# Altium integrated library Linear Technology Power Management LED Driver ICs.IntLib: 490 symbols (part 10 of 48)
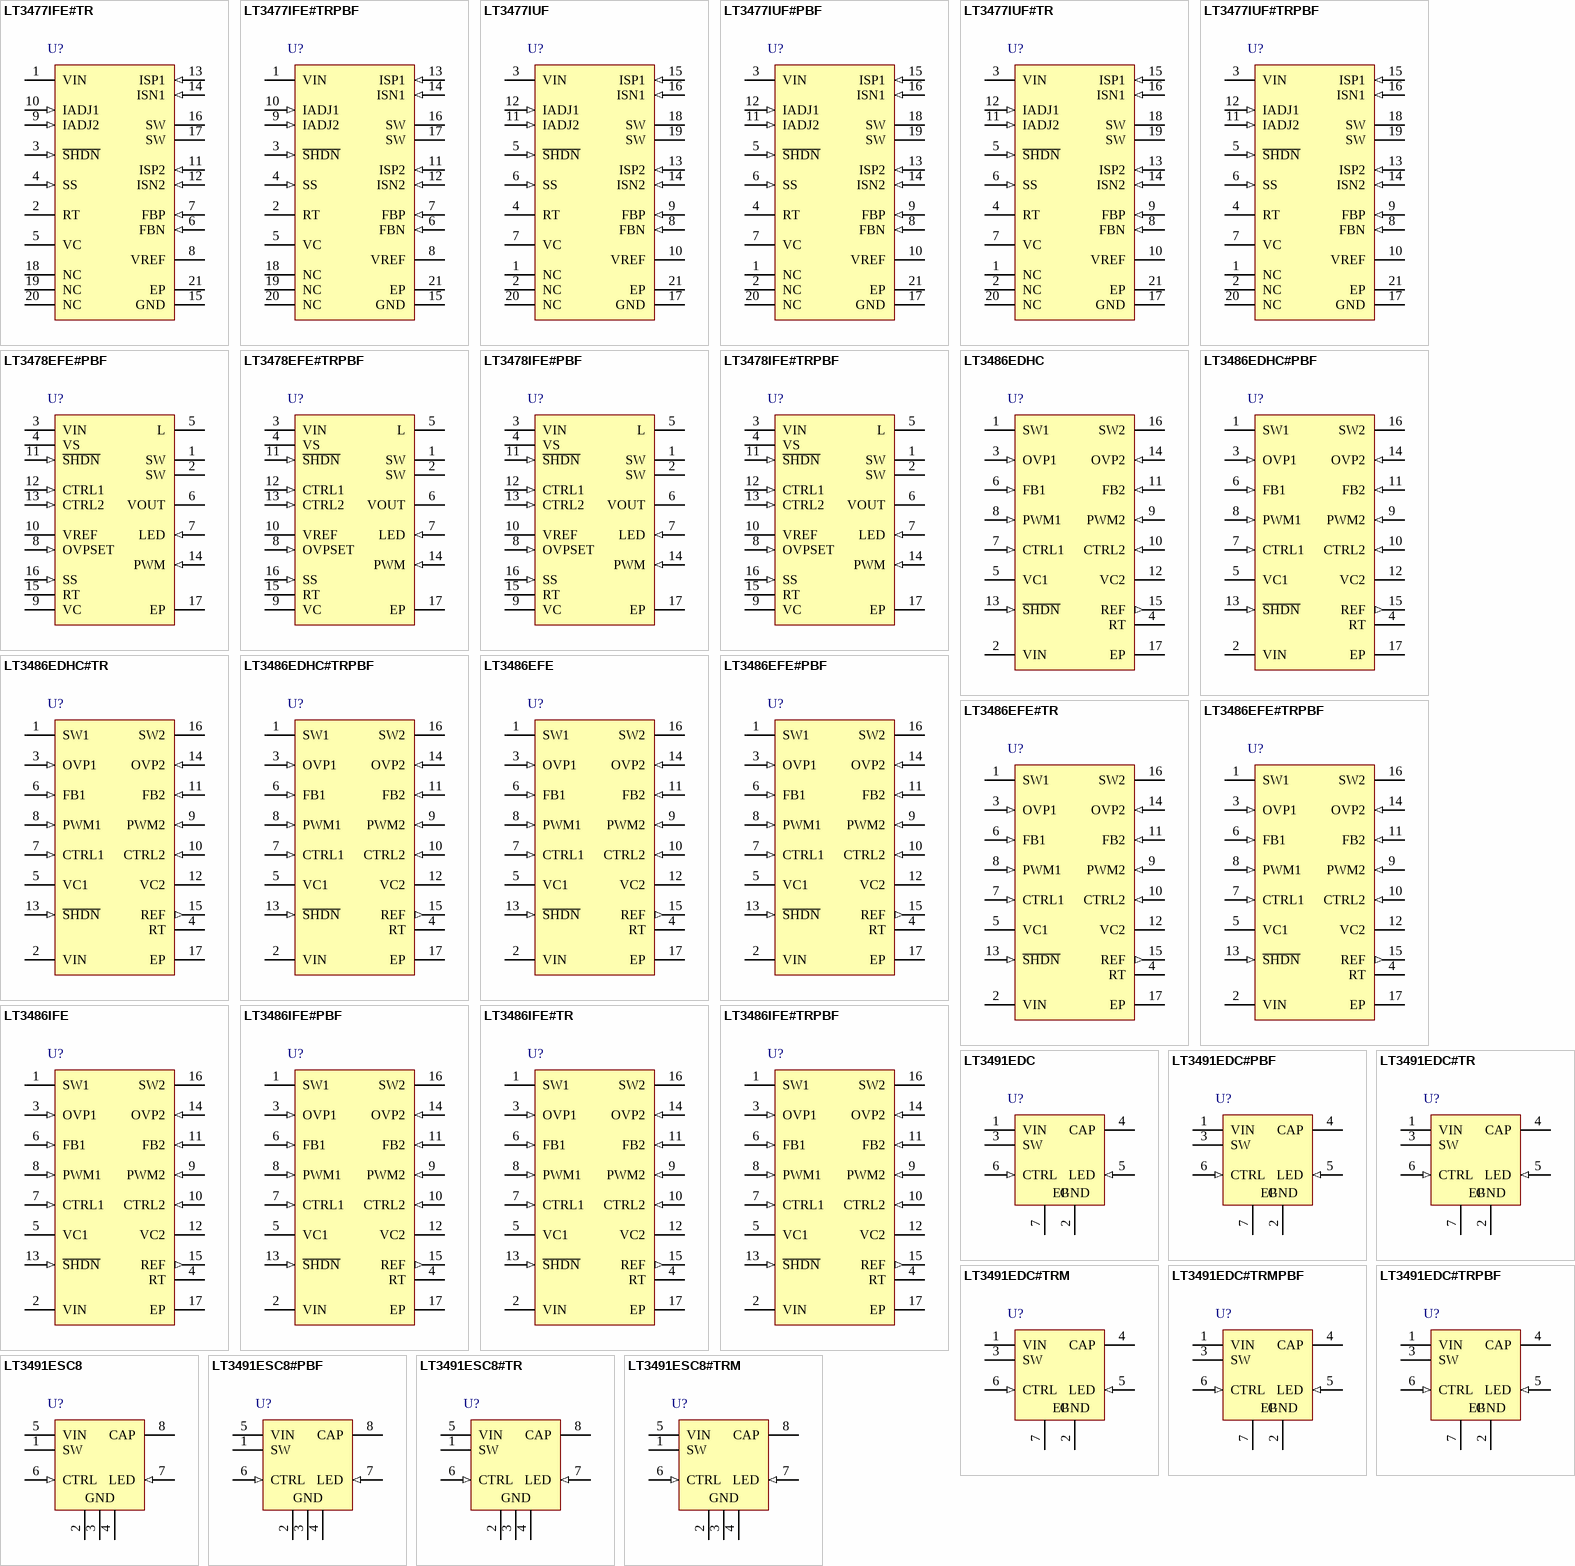
[diagram p29: symbols LT3477IFE#TR to LT3491ESC8#TRM]

## LT3491EDC#TRMPBF
designator U?
White LED Driver with Integrated Schottky, 2.5 to 12 V Vin, 24 V Vout MAX, 6-pin SON (DC6-6), -40 to 85 degC, Pb-Free, Mini Tape and Reel; Manufacturer: Linear Technology; PartNumber: LT3491EDC#TRMPBF; Topology: Boost, LED Driver; Vin Min(V): 2.5; PackageVersion: Rev. B, 06/2010; PackageReference: DC6-6; PackageDescription: 6-Pin Plastic DFN, Body 2 x 2 mm, Pitch 0.5 mm; Supplier 1: Digi-Key; Supplier Part Number 1: LT3491EDC#TRMPBFTR-ND; Supplier 2: Digi-Key; Supplier Part Number 2: LT3491EDC#TRMPBFCT-ND; Supplier 3: Digi-Key; Supplier Part Number 3: LT3491EDC#TRMPBFDKR-ND; Supplier 4: Farnell; Supplier Part Number 4: 1715220; Supplier 5: Farnell; Supplier Part Number 5: 1715220RL; Supplier 6: Newark; Supplier Part Number 6: 75M4733; Packing: Mini Tape and Reel; RoHS: TRUE; Mounting Technology: Surface Mount; Code_JEDEC: MO-229; ComponentLink1Description: Manufacturer URL; ComponentLink1URL: http://www.linear.com/; ComponentLink2Description: Datasheet; ComponentLink2URL: http://cds.linear.com/docs/en/datasheet/3491fa.pdf; ComponentLink3Description: Package Specification; ComponentLink3URL: http://cds.linear.com/docs/en/packaging/DFN_6_05-08-1703.pdf
footprint LT-DC6-6_V (SON, 6-Leads, Body 2x2mm, Pitch 0.5mm, Thermal Pad 1.42x0.61mm)
pins: 1 VIN (power) "Input Supply Pin. Must be locally bypassed.", 2 GND (power) "Ground Pins. All three pins should be tied directly to local ground plane.", 3 SW "Switch Pin. Minimize trace area at this pin to minimize EMI. Connect the inductor at this pin.", 4 CAP (power) "Output of the Driver. This pin is connected to the cathode of internal Schottky. Connect the output capacitor to this pin and the sense resistor from this pin to the LED pin.", 5 LED (in) "Connection Point for the Anode of the First LED and the Sense Resistor. The LED current can be programmed by: ILED=200mV/RSENSE.", 6 CTRL (in) "Dimming and Shutdown Pin. Connect this pin below 50mV to disable the driver. As the pin voltage is ramped from 0V to 1.5V, the LED current ramps from 0 to ILED ( = 200mV/RSENSE). The CTRL pin must not be left floating.", 7 EP (power) "The Exposed Pad should be soldered to the PCB ground to achieve the rated thermal performance."

## LT3491EDC#TRPBF
designator U?
White LED Driver with Integrated Schottky, 2.5 to 12 V Vin, 24 V Vout MAX, 6-pin SON (DC6-6), -40 to 85 degC, Pb-Free, Tape and Reel; Manufacturer: Linear Technology; PartNumber: LT3491EDC#TRPBF; Topology: Boost, LED Driver; Vin Min(V): 2.5; PackageVersion: Rev. B, 06/2010; PackageReference: DC6-6; PackageDescription: 6-Pin Plastic DFN, Body 2 x 2 mm, Pitch 0.5 mm; Supplier 1: Digi-Key; Supplier Part Number 1: LT3491EDC#TRPBF-ND; Packing: Tape and Reel; RoHS: TRUE; Mounting Technology: Surface Mount; Code_JEDEC: MO-229; ComponentLink1Description: Manufacturer URL; ComponentLink1URL: http://www.linear.com/; ComponentLink2Description: Datasheet; ComponentLink2URL: http://cds.linear.com/docs/en/datasheet/3491fa.pdf; ComponentLink3Description: Package Specification; ComponentLink3URL: http://cds.linear.com/docs/en/packaging/DFN_6_05-08-1703.pdf
footprint LT-DC6-6_V (SON, 6-Leads, Body 2x2mm, Pitch 0.5mm, Thermal Pad 1.42x0.61mm)
pins: 1 VIN (power) "Input Supply Pin. Must be locally bypassed.", 2 GND (power) "Ground Pins. All three pins should be tied directly to local ground plane.", 3 SW "Switch Pin. Minimize trace area at this pin to minimize EMI. Connect the inductor at this pin.", 4 CAP (power) "Output of the Driver. This pin is connected to the cathode of internal Schottky. Connect the output capacitor to this pin and the sense resistor from this pin to the LED pin.", 5 LED (in) "Connection Point for the Anode of the First LED and the Sense Resistor. The LED current can be programmed by: ILED=200mV/RSENSE.", 6 CTRL (in) "Dimming and Shutdown Pin. Connect this pin below 50mV to disable the driver. As the pin voltage is ramped from 0V to 1.5V, the LED current ramps from 0 to ILED ( = 200mV/RSENSE). The CTRL pin must not be left floating.", 7 EP (power) "The Exposed Pad should be soldered to the PCB ground to achieve the rated thermal performance."

## LT3491ESC8
designator U?
White LED Driver with Integrated Schottky, 2.5 to 12 V Vin, 24 V Vout MAX, 8-pin SOT23 (SC8-8), -40 to 85 degC; Manufacturer: Linear Technology; PartNumber: LT3491ESC8; Topology: Boost, LED Driver; Vin Min(V): 2.5; PackageVersion: Rev. Ø, 06/2012; PackageReference: SC8-8; PackageDescription: 8-Pin Plastic SC70, Body 2 x 1.25 mm, Pitch 0.5 mm; RoHS: FALSE; Mounting Technology: Surface Mount; Code_JEDEC: MO-203; ComponentLink1Description: Manufacturer URL; ComponentLink1URL: http://www.linear.com/; ComponentLink2Description: Datasheet; ComponentLink2URL: http://cds.linear.com/docs/en/datasheet/3491fa.pdf; ComponentLink3Description: Package Specification; ComponentLink3URL: http://cds.linear.com/docs/en/packaging/SOT_8_05-08-1639.pdf
footprint LT-SC8-8-SC70_N (SOT23, 8-Leads, Body 2.2x1.35mm, Pitch 0.5mm, IPC Medium Density)
footprint LT-SC8-8-SC70_L (SOT23, 8-Leads, Body 2.2x1.35mm, Pitch 0.5mm, IPC High Density)
footprint LT-SC8-8-SC70_M (SOT23, 8-Leads, Body 2.2x1.35mm, Pitch 0.5mm, IPC Low Density)
pins: 1 SW "Switch Pin. Minimize trace area at this pin to minimize EMI. Connect the inductor at this pin.", 2 GND (power) "Ground Pins. All three pins should be tied directly to local ground plane.", 3 GND (power) "Ground Pins. All three pins should be tied directly to local ground plane.", 4 GND (power) "Ground Pins. All three pins should be tied directly to local ground plane.", 5 VIN (power) "Input Supply Pin. Must be locally bypassed.", 6 CTRL (in) "Dimming and Shutdown Pin. Connect this pin below 50mV to disable the driver. As the pin voltage is ramped from 0V to 1.5V, the LED current ramps from 0 to ILED ( = 200mV/RSENSE). The CTRL pin must not be left floating.", 7 LED (in) "Connection Point for the Anode of the First LED and the Sense Resistor.", 8 CAP (power) "Output of the Driver. This pin is connected to the cathode of internal Schottky. Connect the output capacitor to this pin and the sense resistor from this pin to the LED pin."

## LT3491ESC8#PBF
designator U?
White LED Driver with Integrated Schottky, 2.5 to 12 V Vin, 24 V Vout MAX, 8-pin SOT23 (SC8-8), -40 to 85 degC, Pb-Free; Manufacturer: Linear Technology; PartNumber: LT3491ESC8#PBF; Topology: Boost, LED Driver; Vin Min(V): 2.5; PackageVersion: Rev. Ø, 06/2012; PackageReference: SC8-8; PackageDescription: 8-Pin Plastic SC70, Body 2 x 1.25 mm, Pitch 0.5 mm; Supplier 1: Farnell; Supplier Part Number 1: 2294846; Supplier 2: Newark; Supplier Part Number 2: 78T4015; RoHS: TRUE; Mounting Technology: Surface Mount; Code_JEDEC: MO-203; ComponentLink1Description: Manufacturer URL; ComponentLink1URL: http://www.linear.com/; ComponentLink2Description: Datasheet; ComponentLink2URL: http://cds.linear.com/docs/en/datasheet/3491fa.pdf; ComponentLink3Description: Package Specification; ComponentLink3URL: http://cds.linear.com/docs/en/packaging/SOT_8_05-08-1639.pdf
footprint LT-SC8-8-SC70_N (SOT23, 8-Leads, Body 2.2x1.35mm, Pitch 0.5mm, IPC Medium Density)
footprint LT-SC8-8-SC70_L (SOT23, 8-Leads, Body 2.2x1.35mm, Pitch 0.5mm, IPC High Density)
footprint LT-SC8-8-SC70_M (SOT23, 8-Leads, Body 2.2x1.35mm, Pitch 0.5mm, IPC Low Density)
pins: 1 SW "Switch Pin. Minimize trace area at this pin to minimize EMI. Connect the inductor at this pin.", 2 GND (power) "Ground Pins. All three pins should be tied directly to local ground plane.", 3 GND (power) "Ground Pins. All three pins should be tied directly to local ground plane.", 4 GND (power) "Ground Pins. All three pins should be tied directly to local ground plane.", 5 VIN (power) "Input Supply Pin. Must be locally bypassed.", 6 CTRL (in) "Dimming and Shutdown Pin. Connect this pin below 50mV to disable the driver. As the pin voltage is ramped from 0V to 1.5V, the LED current ramps from 0 to ILED ( = 200mV/RSENSE). The CTRL pin must not be left floating.", 7 LED (in) "Connection Point for the Anode of the First LED and the Sense Resistor.", 8 CAP (power) "Output of the Driver. This pin is connected to the cathode of internal Schottky. Connect the output capacitor to this pin and the sense resistor from this pin to the LED pin."

## LT3491ESC8#TR
designator U?
White LED Driver with Integrated Schottky, 2.5 to 12 V Vin, 24 V Vout MAX, 8-pin SOT23 (SC8-8), -40 to 85 degC, Tape and Reel; Manufacturer: Linear Technology; PartNumber: LT3491ESC8#TR; Topology: Boost, LED Driver; Vin Min(V): 2.5; PackageVersion: Rev. Ø, 06/2012; PackageReference: SC8-8; PackageDescription: 8-Pin Plastic SC70, Body 2 x 1.25 mm, Pitch 0.5 mm; Supplier 1: Newark; Supplier Part Number 1: 57M8424; Packing: Tape and Reel; RoHS: FALSE; Mounting Technology: Surface Mount; Code_JEDEC: MO-203; ComponentLink1Description: Manufacturer URL; ComponentLink1URL: http://www.linear.com/; ComponentLink2Description: Datasheet; ComponentLink2URL: http://cds.linear.com/docs/en/datasheet/3491fa.pdf; ComponentLink3Description: Package Specification; ComponentLink3URL: http://cds.linear.com/docs/en/packaging/SOT_8_05-08-1639.pdf
footprint LT-SC8-8-SC70_N (SOT23, 8-Leads, Body 2.2x1.35mm, Pitch 0.5mm, IPC Medium Density)
footprint LT-SC8-8-SC70_L (SOT23, 8-Leads, Body 2.2x1.35mm, Pitch 0.5mm, IPC High Density)
footprint LT-SC8-8-SC70_M (SOT23, 8-Leads, Body 2.2x1.35mm, Pitch 0.5mm, IPC Low Density)
pins: 1 SW "Switch Pin. Minimize trace area at this pin to minimize EMI. Connect the inductor at this pin.", 2 GND (power) "Ground Pins. All three pins should be tied directly to local ground plane.", 3 GND (power) "Ground Pins. All three pins should be tied directly to local ground plane.", 4 GND (power) "Ground Pins. All three pins should be tied directly to local ground plane.", 5 VIN (power) "Input Supply Pin. Must be locally bypassed.", 6 CTRL (in) "Dimming and Shutdown Pin. Connect this pin below 50mV to disable the driver. As the pin voltage is ramped from 0V to 1.5V, the LED current ramps from 0 to ILED ( = 200mV/RSENSE). The CTRL pin must not be left floating.", 7 LED (in) "Connection Point for the Anode of the First LED and the Sense Resistor.", 8 CAP (power) "Output of the Driver. This pin is connected to the cathode of internal Schottky. Connect the output capacitor to this pin and the sense resistor from this pin to the LED pin."

## LT3491ESC8#TRM
designator U?
White LED Driver with Integrated Schottky, 2.5 to 12 V Vin, 24 V Vout MAX, 8-pin SOT23 (SC8-8), -40 to 85 degC, Mini Tape and Reel; Manufacturer: Linear Technology; PartNumber: LT3491ESC8#TRM; Topology: Boost, LED Driver; Vin Min(V): 2.5; PackageVersion: Rev. Ø, 06/2012; PackageReference: SC8-8; PackageDescription: 8-Pin Plastic SC70, Body 2 x 1.25 mm, Pitch 0.5 mm; Packing: Mini Tape and Reel; RoHS: FALSE; Mounting Technology: Surface Mount; Code_JEDEC: MO-203; ComponentLink1Description: Manufacturer URL; ComponentLink1URL: http://www.linear.com/; ComponentLink2Description: Datasheet; ComponentLink2URL: http://cds.linear.com/docs/en/datasheet/3491fa.pdf; ComponentLink3Description: Package Specification; ComponentLink3URL: http://cds.linear.com/docs/en/packaging/SOT_8_05-08-1639.pdf
footprint LT-SC8-8-SC70_N (SOT23, 8-Leads, Body 2.2x1.35mm, Pitch 0.5mm, IPC Medium Density)
footprint LT-SC8-8-SC70_L (SOT23, 8-Leads, Body 2.2x1.35mm, Pitch 0.5mm, IPC High Density)
footprint LT-SC8-8-SC70_M (SOT23, 8-Leads, Body 2.2x1.35mm, Pitch 0.5mm, IPC Low Density)
pins: 1 SW "Switch Pin. Minimize trace area at this pin to minimize EMI. Connect the inductor at this pin.", 2 GND (power) "Ground Pins. All three pins should be tied directly to local ground plane.", 3 GND (power) "Ground Pins. All three pins should be tied directly to local ground plane.", 4 GND (power) "Ground Pins. All three pins should be tied directly to local ground plane.", 5 VIN (power) "Input Supply Pin. Must be locally bypassed.", 6 CTRL (in) "Dimming and Shutdown Pin. Connect this pin below 50mV to disable the driver. As the pin voltage is ramped from 0V to 1.5V, the LED current ramps from 0 to ILED ( = 200mV/RSENSE). The CTRL pin must not be left floating.", 7 LED (in) "Connection Point for the Anode of the First LED and the Sense Resistor.", 8 CAP (power) "Output of the Driver. This pin is connected to the cathode of internal Schottky. Connect the output capacitor to this pin and the sense resistor from this pin to the LED pin."

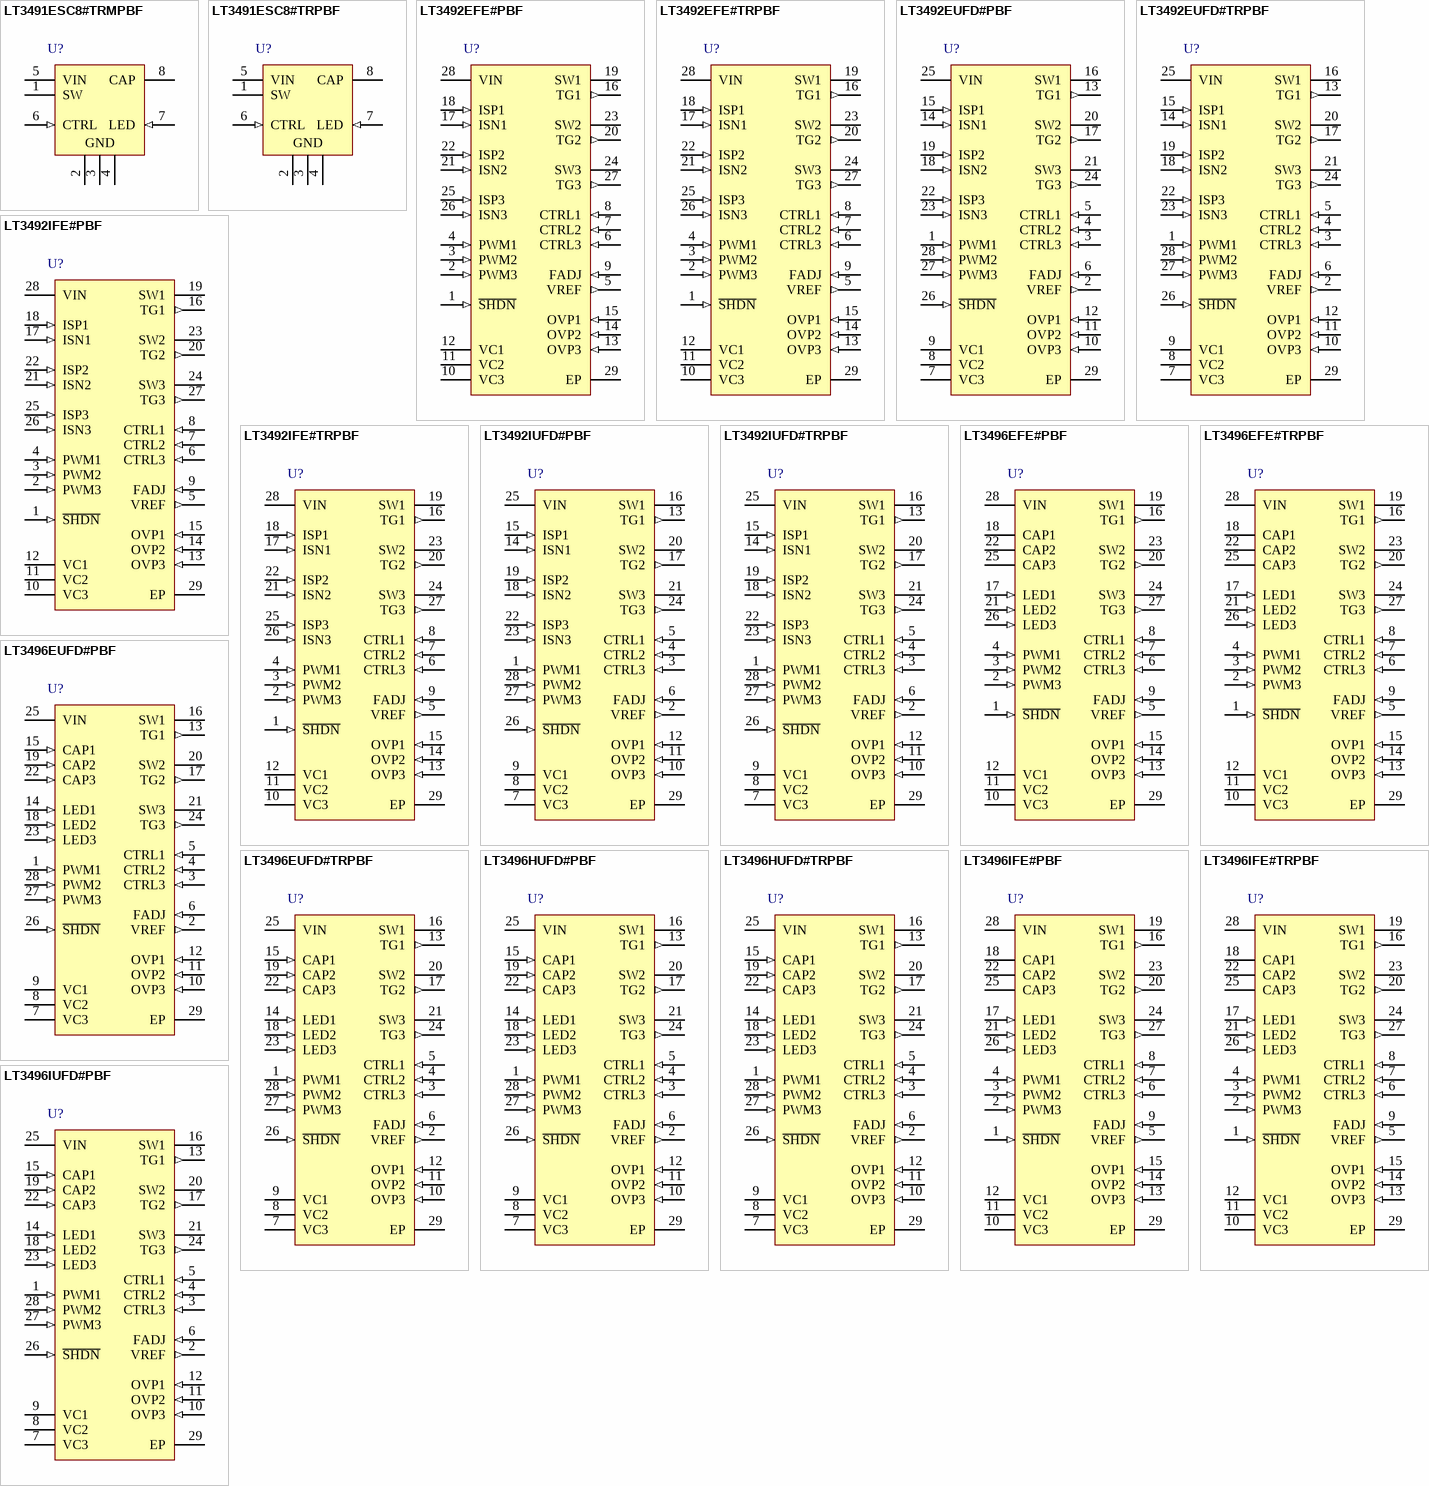
[diagram p4: symbols LT3491ESC8#TRMPBF to LT3496IUFD#PBF]

## LT3491ESC8#TRMPBF
designator U?
White LED Driver with Integrated Schottky, 2.5 to 12 V Vin, 24 V Vout MAX, 8-pin SOT23 (SC8-8), -40 to 85 degC, Pb-Free, Mini Tape and Reel; Manufacturer: Linear Technology; PartNumber: LT3491ESC8#TRMPBF; Topology: Boost, LED Driver; Vin Min(V): 2.5; PackageVersion: Rev. Ø, 06/2012; PackageReference: SC8-8; PackageDescription: 8-Pin Plastic SC70, Body 2 x 1.25 mm, Pitch 0.5 mm; Supplier 1: Digi-Key; Supplier Part Number 1: LT3491ESC8#TRMPBFTR-ND; Supplier 2: Digi-Key; Supplier Part Number 2: LT3491ESC8#TRMPBFCT-ND; Supplier 3: Digi-Key; Supplier Part Number 3: LT3491ESC8#TRMPBFDKR-ND; Supplier 4: Newark; Supplier Part Number 4: 57M8426; Packing: Mini Tape and Reel; RoHS: TRUE; Mounting Technology: Surface Mount; Code_JEDEC: MO-203; ComponentLink1Description: Manufacturer URL; ComponentLink1URL: http://www.linear.com/; ComponentLink2Description: Datasheet; ComponentLink2URL: http://cds.linear.com/docs/en/datasheet/3491fa.pdf; ComponentLink3Description: Package Specification; ComponentLink3URL: http://cds.linear.com/docs/en/packaging/SOT_8_05-08-1639.pdf
footprint LT-SC8-8-SC70_N (SOT23, 8-Leads, Body 2.2x1.35mm, Pitch 0.5mm, IPC Medium Density)
footprint LT-SC8-8-SC70_L (SOT23, 8-Leads, Body 2.2x1.35mm, Pitch 0.5mm, IPC High Density)
footprint LT-SC8-8-SC70_M (SOT23, 8-Leads, Body 2.2x1.35mm, Pitch 0.5mm, IPC Low Density)
pins: 1 SW "Switch Pin. Minimize trace area at this pin to minimize EMI. Connect the inductor at this pin.", 2 GND (power) "Ground Pins. All three pins should be tied directly to local ground plane.", 3 GND (power) "Ground Pins. All three pins should be tied directly to local ground plane.", 4 GND (power) "Ground Pins. All three pins should be tied directly to local ground plane.", 5 VIN (power) "Input Supply Pin. Must be locally bypassed.", 6 CTRL (in) "Dimming and Shutdown Pin. Connect this pin below 50mV to disable the driver. As the pin voltage is ramped from 0V to 1.5V, the LED current ramps from 0 to ILED ( = 200mV/RSENSE). The CTRL pin must not be left floating.", 7 LED (in) "Connection Point for the Anode of the First LED and the Sense Resistor.", 8 CAP (power) "Output of the Driver. This pin is connected to the cathode of internal Schottky. Connect the output capacitor to this pin and the sense resistor from this pin to the LED pin."

## LT3491ESC8#TRPBF
designator U?
White LED Driver with Integrated Schottky, 2.5 to 12 V Vin, 24 V Vout MAX, 8-pin SOT23 (SC8-8), -40 to 85 degC, Pb-Free, Tape and Reel; Manufacturer: Linear Technology; PartNumber: LT3491ESC8#TRPBF; Topology: Boost, LED Driver; Vin Min(V): 2.5; PackageVersion: Rev. Ø, 06/2012; PackageReference: SC8-8; PackageDescription: 8-Pin Plastic SC70, Body 2 x 1.25 mm, Pitch 0.5 mm; Supplier 1: Digi-Key; Supplier Part Number 1: LT3491ESC8#TRPBF-ND; Supplier 2: Newark; Supplier Part Number 2: 57M8427; Packing: Tape and Reel; RoHS: TRUE; Mounting Technology: Surface Mount; Code_JEDEC: MO-203; ComponentLink1Description: Manufacturer URL; ComponentLink1URL: http://www.linear.com/; ComponentLink2Description: Datasheet; ComponentLink2URL: http://cds.linear.com/docs/en/datasheet/3491fa.pdf; ComponentLink3Description: Package Specification; ComponentLink3URL: http://cds.linear.com/docs/en/packaging/SOT_8_05-08-1639.pdf
footprint LT-SC8-8-SC70_N (SOT23, 8-Leads, Body 2.2x1.35mm, Pitch 0.5mm, IPC Medium Density)
footprint LT-SC8-8-SC70_L (SOT23, 8-Leads, Body 2.2x1.35mm, Pitch 0.5mm, IPC High Density)
footprint LT-SC8-8-SC70_M (SOT23, 8-Leads, Body 2.2x1.35mm, Pitch 0.5mm, IPC Low Density)
pins: 1 SW "Switch Pin. Minimize trace area at this pin to minimize EMI. Connect the inductor at this pin.", 2 GND (power) "Ground Pins. All three pins should be tied directly to local ground plane.", 3 GND (power) "Ground Pins. All three pins should be tied directly to local ground plane.", 4 GND (power) "Ground Pins. All three pins should be tied directly to local ground plane.", 5 VIN (power) "Input Supply Pin. Must be locally bypassed.", 6 CTRL (in) "Dimming and Shutdown Pin. Connect this pin below 50mV to disable the driver. As the pin voltage is ramped from 0V to 1.5V, the LED current ramps from 0 to ILED ( = 200mV/RSENSE). The CTRL pin must not be left floating.", 7 LED (in) "Connection Point for the Anode of the First LED and the Sense Resistor.", 8 CAP (power) "Output of the Driver. This pin is connected to the cathode of internal Schottky. Connect the output capacitor to this pin and the sense resistor from this pin to the LED pin."

## LT3492EFE#PBF
designator U?
Triple Output LED Driver Triple Output LED Driver with 3000:1 PWM Dimming, 3 to 30 V Vin, 60 V Vout MAX, 28-pin SOP (FE-28-EPV-EB), -40 to 125 degC, Pb-Free; Manufacturer: Linear Technology; PartNumber: LT3492EFE#PBF; Topology: Buck, Boost, Buck-Boost, LED Driver; Vin Min(V): 3; DatasheetVersion: Rev. A; PackageVersion: Rev. J, 11/2012; PackageReference: FE-28; PackageDescription: 28-Pin Plastic TSSOP, Body 9.7 x 4.4 mm, Pitch 0.65 mm; Supplier 1: Digi-Key; Supplier Part Number 1: LT3492EFE#PBF-ND; Supplier 2: Newark; Supplier Part Number 2: 63R6849; RoHS: TRUE; Mounting Technology: Surface Mount; ComponentLink1Description: Manufacturer URL; ComponentLink1URL: http://www.linear.com/; ComponentLink2Description: Datasheet; ComponentLink2URL: http://cds.linear.com/docs/en/datasheet/3492fa.pdf; ComponentLink3Description: Package Specification; ComponentLink3URL: http://cds.linear.com/docs/en/packaging/05081663__J_FE28(EB).pdf
footprint LT-FE-28-EPV-EB_N (SOP, 28-Leads, Body 9.8x4.5mm, Pitch 0.65mm, Thermal Pad 4.75x2.74mm, IPC Medium Density)
footprint LT-FE-28-EPV-EB_L (SOP, 28-Leads, Body 9.8x4.5mm, Pitch 0.65mm, Thermal Pad 4.75x2.74mm, IPC High Density)
footprint LT-FE-28-EPV-EB_M (SOP, 28-Leads, Body 9.8x4.5mm, Pitch 0.65mm, Thermal Pad 4.75x2.74mm, IPC Low Density)
pins: 1 ~{SHDN} (in) "Shutdown Pin. Used to shut down the switching regulator and the internal bias circuits for all three converters. Tie to 1.5V or greater to enable the device. Tie below 0.4V to turn off the device.", 2 PWM3 (in) "Pulse Width Modulated Input. Signal low turns off the respective converter, reduces quiescent supply current and causes the VC pin for that converter to become high impedance. PWM pin must not be left fl oating; tie to VREF (See Datasheet)", 3 PWM2 (in) "Pulse Width Modulated Input. Signal low turns off the respective converter, reduces quiescent supply current and causes the VC pin for that converter to become high impedance. PWM pin must not be left fl oating; tie to VREF (See Datasheet)", 4 PWM1 (in) "Pulse Width Modulated Input. Signal low turns off the respective converter, reduces quiescent supply current and causes the VC pin for that converter to become high impedance. PWM pin must not be left fl oating; tie to VREF (See Datasheet)", 5 VREF (out) "Reference Output Pin. Can supply up to 200uA. The nominal Output Voltage is 2V.", 6 CTRL3 (in) "LED Current Adjustment Pin. Sets voltage across external sense resistor between ISP and ISN pins of the respective converter. Setting CTRL voltage to be less than 1V will control the current sense voltage to be one-tenth of (See Datasheet)", 7 CTRL2 (in) "LED Current Adjustment Pin. Sets voltage across external sense resistor between ISP and ISN pins of the respective converter. Setting CTRL voltage to be less than 1V will control the current sense voltage to be one-tenth of (See Datasheet)", 8 CTRL1 (in) "LED Current Adjustment Pin. Sets voltage across external sense resistor between ISP and ISN pins of the respective converter. Setting CTRL voltage to be less than 1V will control the current sense voltage to be one-tenth of (See Datasheet)", 9 FADJ (in) "Switching Frequency Adjustment Pin. Setting FADJ voltage to be less than 1V will adjust switching frequency up to 2.1MHz. If FADJ voltage is higher than 1V, the default switching frequency is 2.1MHz. The FADJ pin must not be (See Datasheet)", 10 VC3 "Error Amplifier Compensation Pin. Connect a series RC from these pins to GND.", 11 VC2 "Error Amplifier Compensation Pin. Connect a series RC from these pins to GND.", 12 VC1 "Error Amplifier Compensation Pin. Connect a series RC from these pins to GND.", 13 OVP3 (in) "Open LED Protection Pin. A voltage higher than 1V on OVP turns off the internal main switch of the respective converter. Tie to ground if not used.", 14 OVP2 (in) "Open LED Protection Pin. A voltage higher than 1V on OVP turns off the internal main switch of the respective converter. Tie to ground if not used.", 15 OVP1 (in) "Open LED Protection Pin. A voltage higher than 1V on OVP turns off the internal main switch of the respective converter. Tie to ground if not used.", 16 TG1 (out) "The Gate Driver Output Pin for Disconnect P-Channel MOSFET. One for each converter. When the PWM pin is low, the TG pin pulls up to ISP to turn off the external MOSFET. When the PWM pin is high, the external MOSFET turns on. (See Datasheet)", 17 ISN1 (in) "Noninverting Input of Current Sense Error Amplifier. Connect directly to LED current sense resistor terminal for current sensing of the respective converter.", 18 ISP1 (in) "Inverting Input of Current Sense Error Amplifier. Connect directly to other terminal of LED current sense resistor terminal of the respective converter.", 19 SW1 (power) "Switch Pin. Collector of the internal NPN power switch of the respective converter. Connect to external inductor and anode of external Schottky rectifier of the respective converter. Minimize the metal tracearea connected to (See Datasheet)", 20 TG2 (out) "The Gate Driver Output Pin for Disconnect P-Channel MOSFET. One for each converter. When the PWM pin is low, the TG pin pulls up to ISP to turn off the external MOSFET. When the PWM pin is high, the external MOSFET turns on. (See Datasheet)", 21 ISN2 (in) "Noninverting Input of Current Sense Error Amplifier. Connect directly to LED current sense resistor terminal for current sensing of the respective converter.", 22 ISP2 (in) "Inverting Input of Current Sense Error Amplifier. Connect directly to other terminal of LED current sense resistor terminal of the respective converter.", 23 SW2 (power) "Switch Pin. Collector of the internal NPN power switch of the respective converter. Connect to external inductor and anode of external Schottky rectifier of the respective converter. Minimize the metal tracearea connected to (See Datasheet)", 24 SW3 (power) "Switch Pin. Collector of the internal NPN power switch of the respective converter. Connect to external inductor and anode of external Schottky rectifier of the respective converter. Minimize the metal tracearea connected to (See Datasheet)", 25 ISP3 (in) "Inverting Input of Current Sense Error Amplifier. Connect directly to other terminal of LED current sense resistor terminal of the respective converter.", 26 ISN3 (in) "Noninverting Input of Current Sense Error Amplifier. Connect directly to LED current sense resistor terminal for current sensing of the respective converter.", 27 TG3 (out) "The Gate Driver Output Pin for Disconnect P-Channel MOSFET. One for each converter. When the PWM pin is low, the TG pin pulls up to ISP to turn off the external MOSFET. When the PWM pin is high, the external MOSFET turns on. (See Datasheet)", 28 VIN (power) "Input Supply Pin. Must be locally bypassed. Powers the internal control circuitry.", 29 EP (power) "Signal Ground and Power Ground. Solder exposed pad directly to ground plane."

## LT3492EFE#TRPBF
designator U?
Triple Output LED Driver Triple Output LED Driver with 3000:1 PWM Dimming, 3 to 30 V Vin, 60 V Vout MAX, 28-pin SOP (FE-28-EPV-EB), -40 to 125 degC, Pb-Free, Tape and Reel; Manufacturer: Linear Technology; PartNumber: LT3492EFE#TRPBF; Topology: Buck, Boost, Buck-Boost, LED Driver; Vin Min(V): 3; DatasheetVersion: Rev. A; PackageVersion: Rev. J, 11/2012; PackageReference: FE-28; PackageDescription: 28-Pin Plastic TSSOP, Body 9.7 x 4.4 mm, Pitch 0.65 mm; Supplier 1: Digi-Key; Supplier Part Number 1: LT3492EFE#TRPBF-ND; Supplier 2: Newark; Supplier Part Number 2: 63R6850; Packing: Tape and Reel; RoHS: TRUE; Mounting Technology: Surface Mount; ComponentLink1Description: Manufacturer URL; ComponentLink1URL: http://www.linear.com/; ComponentLink2Description: Datasheet; ComponentLink2URL: http://cds.linear.com/docs/en/datasheet/3492fa.pdf; ComponentLink3Description: Package Specification; ComponentLink3URL: http://cds.linear.com/docs/en/packaging/05081663__J_FE28(EB).pdf
footprint LT-FE-28-EPV-EB_N (SOP, 28-Leads, Body 9.8x4.5mm, Pitch 0.65mm, Thermal Pad 4.75x2.74mm, IPC Medium Density)
footprint LT-FE-28-EPV-EB_L (SOP, 28-Leads, Body 9.8x4.5mm, Pitch 0.65mm, Thermal Pad 4.75x2.74mm, IPC High Density)
footprint LT-FE-28-EPV-EB_M (SOP, 28-Leads, Body 9.8x4.5mm, Pitch 0.65mm, Thermal Pad 4.75x2.74mm, IPC Low Density)
pins: 1 ~{SHDN} (in) "Shutdown Pin. Used to shut down the switching regulator and the internal bias circuits for all three converters. Tie to 1.5V or greater to enable the device. Tie below 0.4V to turn off the device.", 2 PWM3 (in) "Pulse Width Modulated Input. Signal low turns off the respective converter, reduces quiescent supply current and causes the VC pin for that converter to become high impedance. PWM pin must not be left fl oating; tie to VREF (See Datasheet)", 3 PWM2 (in) "Pulse Width Modulated Input. Signal low turns off the respective converter, reduces quiescent supply current and causes the VC pin for that converter to become high impedance. PWM pin must not be left fl oating; tie to VREF (See Datasheet)", 4 PWM1 (in) "Pulse Width Modulated Input. Signal low turns off the respective converter, reduces quiescent supply current and causes the VC pin for that converter to become high impedance. PWM pin must not be left fl oating; tie to VREF (See Datasheet)", 5 VREF (out) "Reference Output Pin. Can supply up to 200uA. The nominal Output Voltage is 2V.", 6 CTRL3 (in) "LED Current Adjustment Pin. Sets voltage across external sense resistor between ISP and ISN pins of the respective converter. Setting CTRL voltage to be less than 1V will control the current sense voltage to be one-tenth of (See Datasheet)", 7 CTRL2 (in) "LED Current Adjustment Pin. Sets voltage across external sense resistor between ISP and ISN pins of the respective converter. Setting CTRL voltage to be less than 1V will control the current sense voltage to be one-tenth of (See Datasheet)", 8 CTRL1 (in) "LED Current Adjustment Pin. Sets voltage across external sense resistor between ISP and ISN pins of the respective converter. Setting CTRL voltage to be less than 1V will control the current sense voltage to be one-tenth of (See Datasheet)", 9 FADJ (in) "Switching Frequency Adjustment Pin. Setting FADJ voltage to be less than 1V will adjust switching frequency up to 2.1MHz. If FADJ voltage is higher than 1V, the default switching frequency is 2.1MHz. The FADJ pin must not be (See Datasheet)", 10 VC3 "Error Amplifier Compensation Pin. Connect a series RC from these pins to GND.", 11 VC2 "Error Amplifier Compensation Pin. Connect a series RC from these pins to GND.", 12 VC1 "Error Amplifier Compensation Pin. Connect a series RC from these pins to GND.", 13 OVP3 (in) "Open LED Protection Pin. A voltage higher than 1V on OVP turns off the internal main switch of the respective converter. Tie to ground if not used.", 14 OVP2 (in) "Open LED Protection Pin. A voltage higher than 1V on OVP turns off the internal main switch of the respective converter. Tie to ground if not used.", 15 OVP1 (in) "Open LED Protection Pin. A voltage higher than 1V on OVP turns off the internal main switch of the respective converter. Tie to ground if not used.", 16 TG1 (out) "The Gate Driver Output Pin for Disconnect P-Channel MOSFET. One for each converter. When the PWM pin is low, the TG pin pulls up to ISP to turn off the external MOSFET. When the PWM pin is high, the external MOSFET turns on. (See Datasheet)", 17 ISN1 (in) "Noninverting Input of Current Sense Error Amplifier. Connect directly to LED current sense resistor terminal for current sensing of the respective converter.", 18 ISP1 (in) "Inverting Input of Current Sense Error Amplifier. Connect directly to other terminal of LED current sense resistor terminal of the respective converter.", 19 SW1 (power) "Switch Pin. Collector of the internal NPN power switch of the respective converter. Connect to external inductor and anode of external Schottky rectifier of the respective converter. Minimize the metal tracearea connected to (See Datasheet)", 20 TG2 (out) "The Gate Driver Output Pin for Disconnect P-Channel MOSFET. One for each converter. When the PWM pin is low, the TG pin pulls up to ISP to turn off the external MOSFET. When the PWM pin is high, the external MOSFET turns on. (See Datasheet)", 21 ISN2 (in) "Noninverting Input of Current Sense Error Amplifier. Connect directly to LED current sense resistor terminal for current sensing of the respective converter.", 22 ISP2 (in) "Inverting Input of Current Sense Error Amplifier. Connect directly to other terminal of LED current sense resistor terminal of the respective converter.", 23 SW2 (power) "Switch Pin. Collector of the internal NPN power switch of the respective converter. Connect to external inductor and anode of external Schottky rectifier of the respective converter. Minimize the metal tracearea connected to (See Datasheet)", 24 SW3 (power) "Switch Pin. Collector of the internal NPN power switch of the respective converter. Connect to external inductor and anode of external Schottky rectifier of the respective converter. Minimize the metal tracearea connected to (See Datasheet)", 25 ISP3 (in) "Inverting Input of Current Sense Error Amplifier. Connect directly to other terminal of LED current sense resistor terminal of the respective converter.", 26 ISN3 (in) "Noninverting Input of Current Sense Error Amplifier. Connect directly to LED current sense resistor terminal for current sensing of the respective converter.", 27 TG3 (out) "The Gate Driver Output Pin for Disconnect P-Channel MOSFET. One for each converter. When the PWM pin is low, the TG pin pulls up to ISP to turn off the external MOSFET. When the PWM pin is high, the external MOSFET turns on. (See Datasheet)", 28 VIN (power) "Input Supply Pin. Must be locally bypassed. Powers the internal control circuitry.", 29 EP (power) "Signal Ground and Power Ground. Solder exposed pad directly to ground plane."

## LT3492EUFD#PBF
designator U?
Triple Output LED Driver Triple Output LED Driver with 3000:1 PWM Dimming, 3 to 30 V Vin, 60 V Vout MAX, 28-pin QFN (UFD-28), -40 to 125 degC, Pb-Free; Manufacturer: Linear Technology; PartNumber: LT3492EUFD#PBF; Topology: Buck, Boost, Buck-Boost, LED Driver; Vin Min(V): 3; DatasheetVersion: Rev. A; PackageVersion: Rev. B, 06/2010; PackageReference: UFD-28; PackageDescription: 28-Pin Plastic QFN, Body 5 x 4 mm, Pitch 0.5 mm; Supplier 1: Digi-Key; Supplier Part Number 1: LT3492EUFD#PBF-ND; Supplier 2: Farnell; Supplier Part Number 2: 2294847; Supplier 3: Newark; Supplier Part Number 3: 63R6851; RoHS: TRUE; Mounting Technology: Surface Mount; Code_JEDEC: MO-220; ComponentLink1Description: Manufacturer URL; ComponentLink1URL: http://www.linear.com/; ComponentLink2Description: Datasheet; ComponentLink2URL: http://cds.linear.com/docs/en/datasheet/3492fa.pdf; ComponentLink3Description: Package Specification; ComponentLink3URL: http://cds.linear.com/docs/en/packaging/QFN_28_05-08-1712.pdf
footprint LT-UFD-28_N (QFN, 28-Leads, Body 5.1x4.1mm, Pitch 0.5mm, Thermal Pad 3.65x2.65mm, IPC Medium Density)
footprint LT-UFD-28_L (QFN, 28-Leads, Body 5.1x4.1mm, Pitch 0.5mm, Thermal Pad 3.65x2.65mm, IPC High Density)
footprint LT-UFD-28_M (QFN, 28-Leads, Body 5.1x4.1mm, Pitch 0.5mm, Thermal Pad 3.65x2.65mm, IPC Low Density)
pins: 1 PWM1 (in) "Pulse Width Modulated Input. Signal low turns off the respective converter, reduces quiescent supply current and causes the VC pin for that converter to become high impedance. PWM pin must not be left floating; tie to VREF (See Datasheet)", 2 VREF (out) "Reference Output Pin. Can supply up to 200uA. The nominal Output Voltage is 2V.", 3 CTRL3 (in) "LED Current Adjustment Pins. Sets voltage across external sense resistor between ISP and ISN pins of the respective converter. Setting CTRL voltage to be less than 1V will control the current sense voltage to be one-tenth of (See Datasheet)", 4 CTRL2 (in) "LED Current Adjustment Pins. Sets voltage across external sense resistor between ISP and ISN pins of the respective converter. Setting CTRL voltage to be less than 1V will control the current sense voltage to be one-tenth of (See Datasheet)", 5 CTRL1 (in) "LED Current Adjustment Pins. Sets voltage across external sense resistor between ISP and ISN pins of the respective converter. Setting CTRL voltage to be less than 1V will control the current sense voltage to be one-tenth of (See Datasheet)", 6 FADJ (in) "Switching Frequency Adjustment Pin. Setting FADJ voltage to be less than 1V will adjust switching frequency up to 2.1MHz. If FADJ voltage is higher than 1V, the default switching frequency is 2.1MHz. The FADJ pin must not be (See Datasheet)", 7 VC3 "Error Amplifier Compensation Pins. Connect a series RC from these pins to GND.", 8 VC2 "Error Amplifier Compensation Pins. Connect a series RC from these pins to GND.", 9 VC1 "Error Amplifier Compensation Pins. Connect a series RC from these pins to GND.", 10 OVP3 (in) "Open LED Protection Pins. A voltage higher than 1V on OVP turns off the internal main switch of the respective converter. Tie to ground if not used.", 11 OVP2 (in) "Open LED Protection Pins. A voltage higher than 1V on OVP turns off the internal main switch of the respective converter. Tie to ground if not used.", 12 OVP1 (in) "Open LED Protection Pins. A voltage higher than 1V on OVP turns off the internal main switch of the respective converter. Tie to ground if not used.", 13 TG1 (out) "The Gate Driver Output Pin for Disconnect P-Channel MOSFET. One for each converter. When the PWM pin is low, the TG pin pulls up to ISP to turn off the external MOSFET. When the PWM pin is high, the external MOSFET turns on. (See Datasheet)", 14 ISN1 (in) "Noninverting Input of Current Sense Error Amplifier. Connect directly to LED current sense resistor terminal for current sensing of the respective converter.", 15 ISP1 (in) "Inverting Input of Current Sense Error Amplifier. Connect directly to other terminal of LED current sense resistor terminal of the respective converter.", 16 SW1 (power) "Switch Pins. Collector of the internal NPN power switch of the respective converter. Connect to external inductor and anode of external Schottky rectifier of the respective converter. Minimize the metal trace area connected (See Datasheet)", 17 TG2 (out) "The Gate Driver Output Pin for Disconnect P-Channel MOSFET. One for each converter. When the PWM pin is low, the TG pin pulls up to ISP to turn off the external MOSFET. When the PWM pin is high, the external MOSFET turns on. (See Datasheet)", 18 ISN2 (in) "Noninverting Input of Current Sense Error Amplifier. Connect directly to LED current sense resistor terminal for current sensing of the respective converter.", 19 ISP2 (in) "Inverting Input of Current Sense Error Amplifier. Connect directly to other terminal of LED current sense resistor terminal of the respective converter.", 20 SW2 (power) "Switch Pins. Collector of the internal NPN power switch of the respective converter. Connect to external inductor and anode of external Schottky rectifier of the respective converter. Minimize the metal trace area connected (See Datasheet)", 21 SW3 (power) "Switch Pins. Collector of the internal NPN power switch of the respective converter. Connect to external inductor and anode of external Schottky rectifier of the respective converter. Minimize the metal trace area connected (See Datasheet)", 22 ISP3 (in) "Inverting Input of Current Sense Error Amplifier. Connect directly to other terminal of LED current sense resistor terminal of the respective converter.", 23 ISN3 (in) "Noninverting Input of Current Sense Error Amplifier. Connect directly to LED current sense resistor terminal for current sensing of the respective converter.", 24 TG3 (out) "The Gate Driver Output Pin for Disconnect P-Channel MOSFET. One for each converter. When the PWM pin is low, the TG pin pulls up to ISP to turn off the external MOSFET. When the PWM pin is high, the external MOSFET turns on. (See Datasheet)", 25 VIN (power) "Input Supply Pin. Must be locally bypassed. Powers the internal control circuitry.", 26 ~{SHDN} (in) "Shutdown Pin. Used to shut down the switching regulator and the internal bias circuits for all three converters. Tie to 1.5V or greater to enable the device. Tie below 0.4V to turn off the device.", 27 PWM3 (in) "Pulse Width Modulated Input. Signal low turns off the respective converter, reduces quiescent supply current and causes the VC pin for that converter to become high impedance. PWM pin must not be left floating; tie to VREF (See Datasheet)", 28 PWM2 (in) "Pulse Width Modulated Input. Signal low turns off the respective converter, reduces quiescent supply current and causes the VC pin for that converter to become high impedance. PWM pin must not be left floating; tie to VREF (See Datasheet)", 29 EP (power) "Signal Ground and Power Ground. Solder exposed pad directly to ground plane."

## LT3492EUFD#TRPBF
designator U?
Triple Output LED Driver Triple Output LED Driver with 3000:1 PWM Dimming, 3 to 30 V Vin, 60 V Vout MAX, 28-pin QFN (UFD-28), -40 to 125 degC, Pb-Free, Tape and Reel; Manufacturer: Linear Technology; PartNumber: LT3492EUFD#TRPBF; Topology: Buck, Boost, Buck-Boost, LED Driver; Vin Min(V): 3; DatasheetVersion: Rev. A; PackageVersion: Rev. B, 06/2010; PackageReference: UFD-28; PackageDescription: 28-Pin Plastic QFN, Body 5 x 4 mm, Pitch 0.5 mm; Supplier 1: Digi-Key; Supplier Part Number 1: LT3492EUFD#TRPBF-ND; Packing: Tape and Reel; RoHS: TRUE; Mounting Technology: Surface Mount; Code_JEDEC: MO-220; ComponentLink1Description: Manufacturer URL; ComponentLink1URL: http://www.linear.com/; ComponentLink2Description: Datasheet; ComponentLink2URL: http://cds.linear.com/docs/en/datasheet/3492fa.pdf; ComponentLink3Description: Package Specification; ComponentLink3URL: http://cds.linear.com/docs/en/packaging/QFN_28_05-08-1712.pdf
footprint LT-UFD-28_N (QFN, 28-Leads, Body 5.1x4.1mm, Pitch 0.5mm, Thermal Pad 3.65x2.65mm, IPC Medium Density)
footprint LT-UFD-28_L (QFN, 28-Leads, Body 5.1x4.1mm, Pitch 0.5mm, Thermal Pad 3.65x2.65mm, IPC High Density)
footprint LT-UFD-28_M (QFN, 28-Leads, Body 5.1x4.1mm, Pitch 0.5mm, Thermal Pad 3.65x2.65mm, IPC Low Density)
pins: 1 PWM1 (in) "Pulse Width Modulated Input. Signal low turns off the respective converter, reduces quiescent supply current and causes the VC pin for that converter to become high impedance. PWM pin must not be left floating; tie to VREF (See Datasheet)", 2 VREF (out) "Reference Output Pin. Can supply up to 200uA. The nominal Output Voltage is 2V.", 3 CTRL3 (in) "LED Current Adjustment Pins. Sets voltage across external sense resistor between ISP and ISN pins of the respective converter. Setting CTRL voltage to be less than 1V will control the current sense voltage to be one-tenth of (See Datasheet)", 4 CTRL2 (in) "LED Current Adjustment Pins. Sets voltage across external sense resistor between ISP and ISN pins of the respective converter. Setting CTRL voltage to be less than 1V will control the current sense voltage to be one-tenth of (See Datasheet)", 5 CTRL1 (in) "LED Current Adjustment Pins. Sets voltage across external sense resistor between ISP and ISN pins of the respective converter. Setting CTRL voltage to be less than 1V will control the current sense voltage to be one-tenth of (See Datasheet)", 6 FADJ (in) "Switching Frequency Adjustment Pin. Setting FADJ voltage to be less than 1V will adjust switching frequency up to 2.1MHz. If FADJ voltage is higher than 1V, the default switching frequency is 2.1MHz. The FADJ pin must not be (See Datasheet)", 7 VC3 "Error Amplifier Compensation Pins. Connect a series RC from these pins to GND.", 8 VC2 "Error Amplifier Compensation Pins. Connect a series RC from these pins to GND.", 9 VC1 "Error Amplifier Compensation Pins. Connect a series RC from these pins to GND.", 10 OVP3 (in) "Open LED Protection Pins. A voltage higher than 1V on OVP turns off the internal main switch of the respective converter. Tie to ground if not used.", 11 OVP2 (in) "Open LED Protection Pins. A voltage higher than 1V on OVP turns off the internal main switch of the respective converter. Tie to ground if not used.", 12 OVP1 (in) "Open LED Protection Pins. A voltage higher than 1V on OVP turns off the internal main switch of the respective converter. Tie to ground if not used.", 13 TG1 (out) "The Gate Driver Output Pin for Disconnect P-Channel MOSFET. One for each converter. When the PWM pin is low, the TG pin pulls up to ISP to turn off the external MOSFET. When the PWM pin is high, the external MOSFET turns on. (See Datasheet)", 14 ISN1 (in) "Noninverting Input of Current Sense Error Amplifier. Connect directly to LED current sense resistor terminal for current sensing of the respective converter.", 15 ISP1 (in) "Inverting Input of Current Sense Error Amplifier. Connect directly to other terminal of LED current sense resistor terminal of the respective converter.", 16 SW1 (power) "Switch Pins. Collector of the internal NPN power switch of the respective converter. Connect to external inductor and anode of external Schottky rectifier of the respective converter. Minimize the metal trace area connected (See Datasheet)", 17 TG2 (out) "The Gate Driver Output Pin for Disconnect P-Channel MOSFET. One for each converter. When the PWM pin is low, the TG pin pulls up to ISP to turn off the external MOSFET. When the PWM pin is high, the external MOSFET turns on. (See Datasheet)", 18 ISN2 (in) "Noninverting Input of Current Sense Error Amplifier. Connect directly to LED current sense resistor terminal for current sensing of the respective converter.", 19 ISP2 (in) "Inverting Input of Current Sense Error Amplifier. Connect directly to other terminal of LED current sense resistor terminal of the respective converter.", 20 SW2 (power) "Switch Pins. Collector of the internal NPN power switch of the respective converter. Connect to external inductor and anode of external Schottky rectifier of the respective converter. Minimize the metal trace area connected (See Datasheet)", 21 SW3 (power) "Switch Pins. Collector of the internal NPN power switch of the respective converter. Connect to external inductor and anode of external Schottky rectifier of the respective converter. Minimize the metal trace area connected (See Datasheet)", 22 ISP3 (in) "Inverting Input of Current Sense Error Amplifier. Connect directly to other terminal of LED current sense resistor terminal of the respective converter.", 23 ISN3 (in) "Noninverting Input of Current Sense Error Amplifier. Connect directly to LED current sense resistor terminal for current sensing of the respective converter.", 24 TG3 (out) "The Gate Driver Output Pin for Disconnect P-Channel MOSFET. One for each converter. When the PWM pin is low, the TG pin pulls up to ISP to turn off the external MOSFET. When the PWM pin is high, the external MOSFET turns on. (See Datasheet)", 25 VIN (power) "Input Supply Pin. Must be locally bypassed. Powers the internal control circuitry.", 26 ~{SHDN} (in) "Shutdown Pin. Used to shut down the switching regulator and the internal bias circuits for all three converters. Tie to 1.5V or greater to enable the device. Tie below 0.4V to turn off the device.", 27 PWM3 (in) "Pulse Width Modulated Input. Signal low turns off the respective converter, reduces quiescent supply current and causes the VC pin for that converter to become high impedance. PWM pin must not be left floating; tie to VREF (See Datasheet)", 28 PWM2 (in) "Pulse Width Modulated Input. Signal low turns off the respective converter, reduces quiescent supply current and causes the VC pin for that converter to become high impedance. PWM pin must not be left floating; tie to VREF (See Datasheet)", 29 EP (power) "Signal Ground and Power Ground. Solder exposed pad directly to ground plane."